# EAGLE library part MEM_MX30LF1208 (library akita)
512MB/1GB/2GB x8 NAND Flash memory some NC pins should be connected VSS/VDD for 1GB/2GB devices
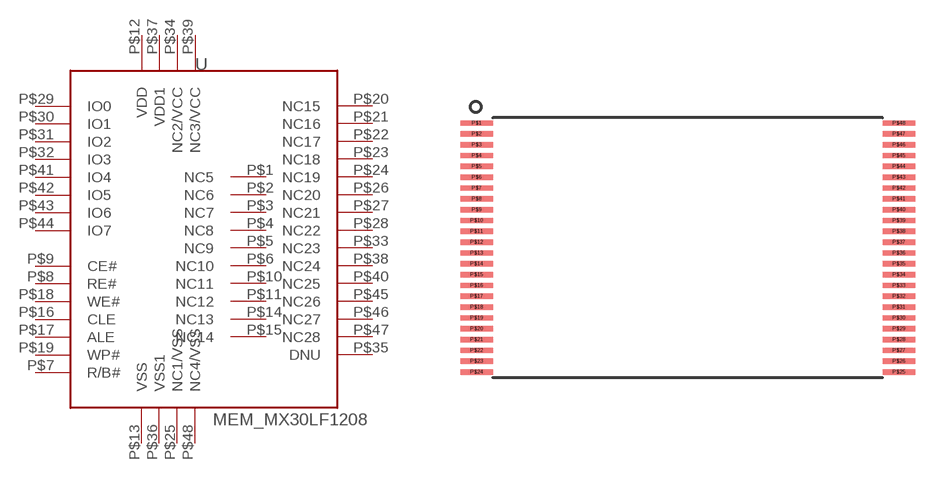
[diagram p93: symbol with the pads of TSOP48W; footprint TSOP48W]

Designator prefix U

## MEM_MX30LF1208  [TSOP48W]
P$1  NC5
P$2  NC6
P$3  NC7
P$4  NC8
P$5  NC9
P$6  NC10
P$7  R/B#
P$8  RE#
P$9  CE#
P$10  NC11
P$11  NC12
P$12  VDD
P$13  VSS
P$14  NC13
P$15  NC14
P$16  CLE
P$17  ALE
P$18  WE#
P$19  WP#
P$20  NC15
P$21  NC16
P$22  NC17
P$23  NC18
P$24  NC19
P$25  NC1/VSS
P$26  NC20
P$27  NC21
P$28  NC22
P$29  IO0
P$30  IO1
P$31  IO2
P$32  IO3
P$33  NC23
P$34  NC2/VCC
P$35  DNU
P$36  VSS1
P$37  VDD1
P$38  NC24
P$39  NC3/VCC
P$40  NC25
P$41  IO4
P$42  IO5
P$43  IO6
P$44  IO7
P$45  NC26
P$46  NC27
P$47  NC28
P$48  NC4/VSS

## Footprint TSOP48W (pad centres in mm)
TSOP48(wide), 0.5mm pitch
smd 1.5 x 0.25: P$1 -9.75,5.75; P$2 -9.75,5.25; P$3 -9.75,4.75; P$4 -9.75,4.25; P$5 -9.75,3.75; P$6 -9.75,3.25; P$7 -9.75,2.75; P$8 -9.75,2.25; P$9 -9.75,1.75; P$10 -9.75,1.25; P$11 -9.75,0.75; P$12 -9.75,0.25; P$13 -9.75,-0.25; P$14 -9.75,-0.75; P$15 -9.75,-1.25; P$16 -9.75,-1.75; P$17 -9.75,-2.25; P$18 -9.75,-2.75; P$19 -9.75,-3.25; P$20 -9.75,-3.75; P$21 -9.75,-4.25; P$22 -9.75,-4.75; P$23 -9.75,-5.25; P$24 -9.75,-5.75; P$25 9.75,-5.75; P$26 9.75,-5.25; P$27 9.75,-4.75; P$28 9.75,-4.25; P$29 9.75,-3.75; P$30 9.75,-3.25; P$31 9.75,-2.75; P$32 9.75,-2.25; P$33 9.75,-1.75; P$34 9.75,-1.25; P$35 9.75,-0.75; P$36 9.75,-0.25; P$37 9.75,0.25; P$38 9.75,0.75; P$39 9.75,1.25; P$40 9.75,1.75; P$41 9.75,2.25; P$42 9.75,2.75; P$43 9.75,3.25; P$44 9.75,3.75; P$45 9.75,4.25; P$46 9.75,4.75; P$47 9.75,5.25; P$48 9.75,5.75